# Altium footprint library PcbLib1.PcbLib: 9 footprints
Each footprint in its own frame and in the unit in brackets; x right, y up, seen from the top. Pads: shape width x height; smd on the part's side, far side on the other; paste and mask are expansions set on the pad; w line width, h text height; cw(c..) or ccw(c..) is an arc to the next point about the centre after c.
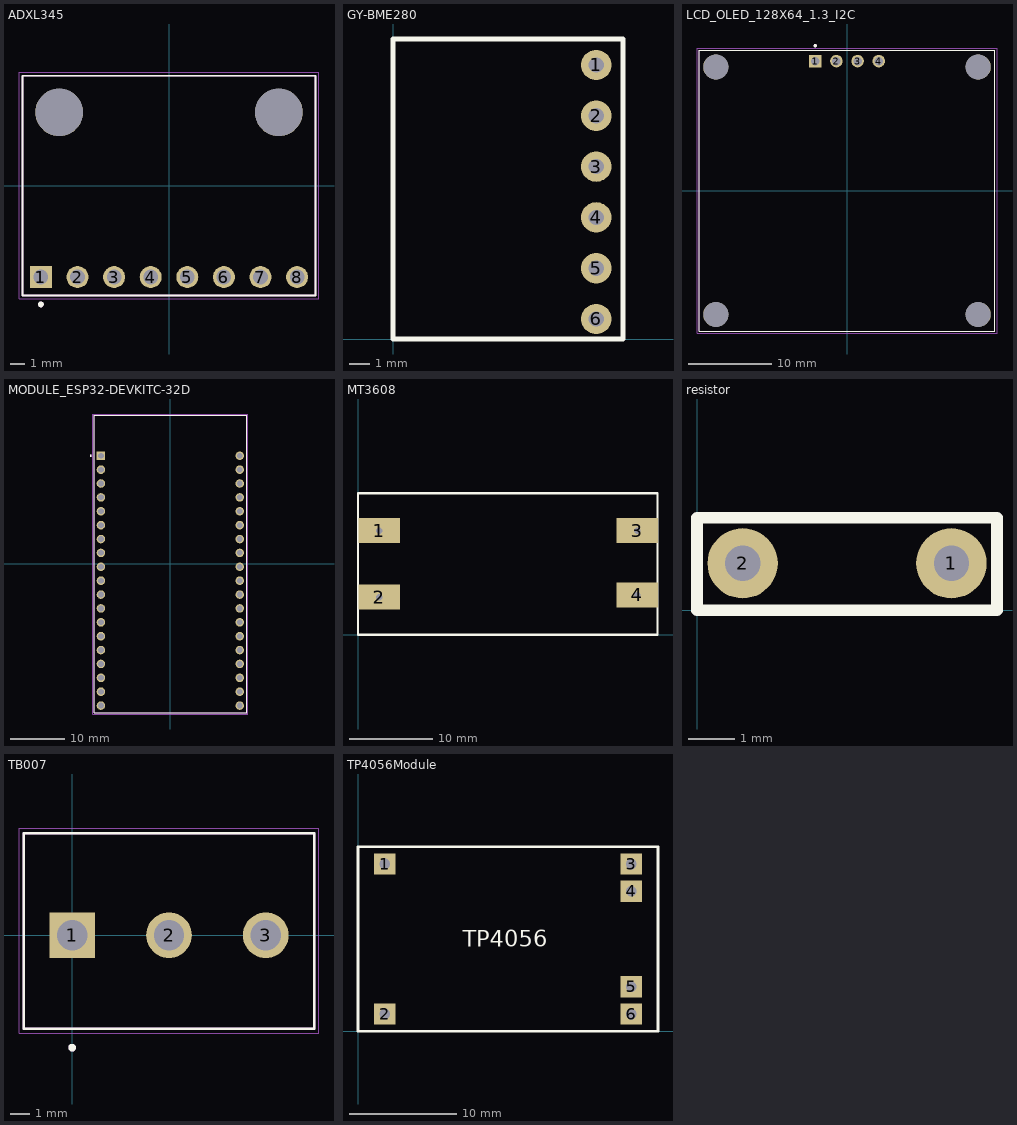
[diagram p0: the footprints below, top view; thin cyan lines are the x and y axes]

## ADXL345 [mil]
pads (10):
  rect 60x60 / inner round 60 / far side rect 60x60 hole 40: 1(-350,-250)
  round 60 hole 40: 2(-250,-250) 3(-150,-250) 4(-50,-250) 5(50,-250) 6(150,-250) 7(250,-250) 8(350,-250)
  round 130 hole 130 unplated: ""(-300,200) ""(300,200)
Top Overlay:
  circle w7.87: c-350,-324.8 r3.94
  lines w5: -400,-300 -400,300 400,300 400,-300 -400,-300
Mechanical 13:
  circle w7.87: c-350,-324.8 r3.94
  lines w5: -400,-300 -400,300 400,300 400,-300 -400,-300
Mechanical 15:
  lines w1.97: -409.84,-309.84 -409.84,309.84 409.84,309.84 409.84,-309.84 -409.84,-309.84
3D body "step_temp.STEP": height 39.37, standoff -61.81, extent -400,-300 400,300

## GY-BME280 [mil]
pads (6):
  round 60 hole 30: 1(400,539.37) 2(400,439.37) 3(400,339.37) 4(400,239.37) 5(400,139.37) 6(400,39.37)
Top Layer:
  text "GY-BME280" at 260.63,19.69 h60
Top Overlay:
  lines w10: 0,0 452.76,0 452.76,590.55 0,590.55 0,0

## LCD_OLED_128X64_1.3_I2C [mm]
pads (8):
  rect 1.508x1.508 / inner round 1.508 / far side rect 1.508x1.508 hole 1: 1(-3.81,15.55)
  round 1.508 hole 1: 2(-1.27,15.55) 3(1.27,15.55) 4(3.81,15.55)
  round 3 hole 3 unplated: ""(-15.75,-14.85) ""(-15.75,14.85) ""(15.75,-14.85) ""(15.75,14.85)
Top Overlay:
  circle w0.2: c-3.81,17.4 r0.1
  lines w0.127: -17.75,-16.85 17.75,-16.85 17.75,16.85 -17.75,16.85 -17.75,-16.85
Mechanical 13:
  circle w0.2: c-3.81,17.4 r0.1
  lines w0.127: -17.75,-16.85 17.75,-16.85 17.75,16.85 -17.75,16.85 -17.75,-16.85
Mechanical 15:
  lines w0.05: -18,-17.1 -18,17.1 18,17.1 18,-17.1 -18,-17.1

## MODULE_ESP32-DEVKITC-32D [mm]
pads (38):
  rect 1.56x1.56 / inner round 1.56 / far side rect 1.56x1.56 hole 1.04: J2-1(-12.7,19.76)
  round 1.56 hole 1.04: J2-2(-12.7,17.22) J2-3(-12.7,14.68) J2-4(-12.7,12.14) J2-5(-12.7,9.6) J2-6(-12.7,7.06) J2-7(-12.7,4.52) J2-8(-12.7,1.98) J2-9(-12.7,-0.56) J2-10(-12.7,-3.1) J2-11(-12.7,-5.64) J2-12(-12.7,-8.18) J2-13(-12.7,-10.72) J2-14(-12.7,-13.26) J2-15(-12.7,-15.8) J2-16(-12.7,-18.34) J2-17(-12.7,-20.88) J2-18(-12.7,-23.42) J2-19(-12.7,-25.96) J3-1(12.7,19.76) J3-2(12.7,17.22) J3-3(12.7,14.68) J3-4(12.7,12.14) J3-5(12.7,9.6) J3-6(12.7,7.06) J3-7(12.7,4.52) J3-8(12.7,1.98) J3-9(12.7,-0.56) J3-10(12.7,-3.1) J3-11(12.7,-5.64) J3-12(12.7,-8.18) J3-13(12.7,-10.72) J3-14(12.7,-13.26) J3-15(12.7,-15.8) J3-16(12.7,-18.34) J3-17(12.7,-20.88) J3-18(12.7,-23.42) J3-19(12.7,-25.96)
Top Overlay:
  circle w0.2: c-14.6,19.76 r0.1
  lines w0.127: -13.95,-27.25 -13.95,27.15 13.95,27.15 13.95,-27.25 -13.95,-27.25
Mechanical 13:
  circle w0.2: c-14.6,19.76 r0.1
  lines w0.127: -13.95,-27.25 13.95,-27.25 13.95,27.15 -13.95,27.15 -13.95,-27.25
Mechanical 15:
  lines w0.05: -14.2,-27.5 14.2,-27.5 14.2,27.4 -14.2,27.4 -14.2,-27.5
3D body "step_temp.STEP": height 6.69, standoff -6, extent -13.97,-27.9 13.97,27.2

## MT3608 [mm]
pads (4):
  rect 5x3 hole 0.762: 1(2.5,12.5) 2(2.5,4.5) 3(33.5,12.5) 4(33.5,4.775)
Top Overlay:
  lines w0.254: -0.043,-0.007 35.957,-0.007 35.957,16.993 -0.043,16.993 -0.043,-0.007

## PCBComponent_1 [mm]

## resistor [mil]
pads (2):
  round 60 hole 30: 1(217,40) 2(39,40)
Top Overlay:
  lines w10: 0,0 255.91,0 255.91,78.74 0,78.74 0,0

## TB007 [mm]
pads (3):
  rect 2.4x2.4 / inner round 2.4 / far side rect 2.4x2.4 hole 1.6: 1(0,0)
  round 2.4 hole 1.6: 2(5.08,0) 3(10.16,0)
Top Overlay:
  circle w0.2: c0,-5.9 r0.1
  lines w0.127: -2.54,-4.9 -2.54,5.35 12.7,5.35 12.7,-4.9 -2.54,-4.9
Mechanical 13:
  circle w0.2: c0,-5.9 r0.1
  lines w0.127: -2.54,-4.9 -2.54,5.35 12.7,5.35 12.7,-4.9 -2.54,-4.9
Mechanical 15:
  lines w0.05: -2.79,-5.15 12.95,-5.15 12.95,5.6 -2.79,5.6 -2.79,-5.15

## TP4056Module [mm]
pads (6):
  rect 2x2 hole 1.016: 1(2.5,15.6) 2(2.5,1.6) 3(25.5,15.6) 4(25.5,13.06) 5(25.5,4.14) 6(25.5,1.6)
Top Overlay:
  lines w0.254: 0,0 0,17.2 28,17.2 28,0 0,0
  text "TP4056" at 9.779,7.874 h1.52